# Altium integrated library ATS2D3G_NC_LFG.IntLib: 1 symbol
Pins are listed as number, name and electrical type; pins without a type are passive.

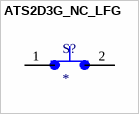
[diagram p0: symbol ATS2D3G_NC_LFG]

## ATS2D3G_NC_LFG
designator S?
Tactile Switch SPST-NC Top Actuated Surface Mount; MP: ATS2D3G_NC_LFG; Package: None; Price: None; Value: *; Availability: Unavailable
footprint SW_ATS2D3G_NC_LFG
pins: 1, 2